# EAGLE library part WAGO_250-408 (library lib_stankus)
WAGO 250-408 Farnell 1891593
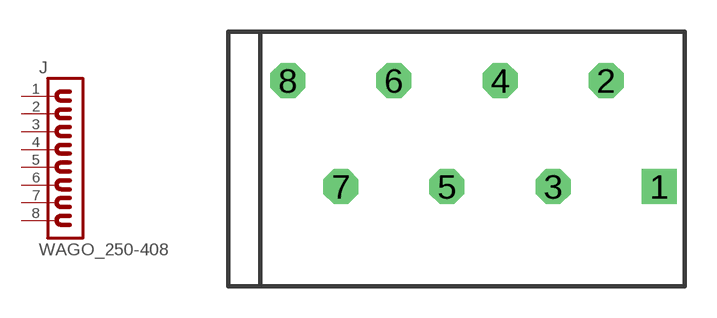
[diagram p82: symbol with the pads of WAGO_250-408; footprint WAGO_250-408]

Designator prefix J

## WAGO_250-408  [WAGO_250-408]
1  1  pas
2  2  pas
3  3  pas
4  4  pas
5  5  pas
6  6  pas
7  7  pas
8  8  pas

## Footprint WAGO_250-408 (pad centres in mm)
WAGO 250-408
drill 1.1 square: 1 8.75,-2.5
drill 1.1 octagon: 2 6.25,2.5; 3 3.75,-2.5; 4 1.25,2.5; 5 -1.25,-2.5; 6 -3.75,2.5; 7 -6.25,-2.5; 8 -8.75,2.5